# EAGLE library part NORCOMP_DUAL_PORT_DSUB9 (library real_library)
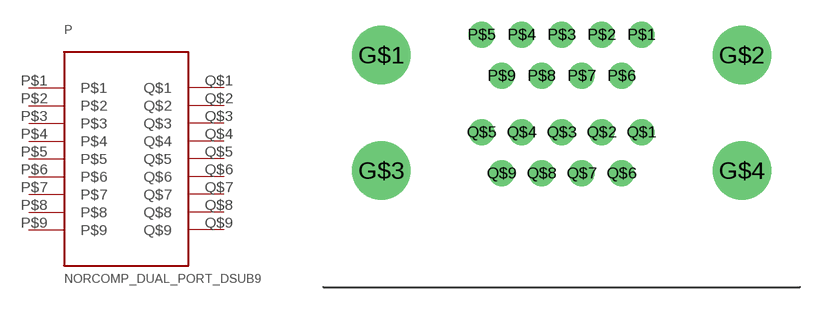
[diagram p1: symbol with the pads of NORCOMP_DUAL_PORT_DSUB9; footprint NORCOMP_DUAL_PORT_DSUB9]

Designator prefix P

## NORCOMP_DUAL_PORT_DSUB9  [NORCOMP_DUAL_PORT_DSUB9]
P$1  P$1
P$2  P$2
P$3  P$3
P$4  P$4
P$5  P$5
P$6  P$6
P$7  P$7
P$8  P$8
P$9  P$9
Q$1  Q$1
Q$2  Q$2
Q$3  Q$3
Q$4  Q$4
Q$5  Q$5
Q$6  Q$6
Q$7  Q$7
Q$8  Q$8
Q$9  Q$9

## Footprint NORCOMP_DUAL_PORT_DSUB9 (pad centres in mm)
drill 3.048: G$1 -12.497,-1.422; G$2 12.497,-1.422; G$3 -12.497,-9.423; G$4 12.497,-9.423
drill 1.194: P$1 5.537,0; P$2 2.769,0; P$3 0,0; P$4 -2.769,0; P$5 -5.537,0; P$6 4.153,-2.845; P$7 1.384,-2.845; P$8 -1.384,-2.845; P$9 -4.153,-2.845; Q$1 5.537,-6.756; Q$2 2.769,-6.756; Q$3 0,-6.756; Q$4 -2.769,-6.756; Q$5 -5.537,-6.756; Q$6 4.153,-9.601; Q$7 1.384,-9.601; Q$8 -1.384,-9.601; Q$9 -4.153,-9.601